# EAGLE library part LTC1966-RMS-DC-CONV (library tinyPFC)
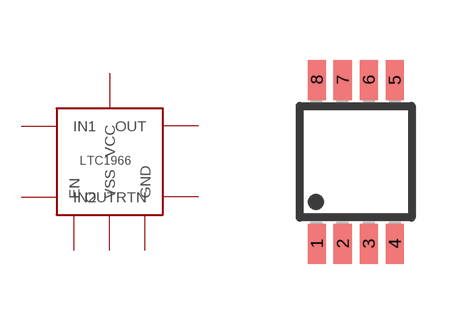
[diagram p1: symbol with the pads of MSOP8; footprint MSOP8]

Designator prefix -

## LTC1966-RMS-DC-CONV  [MSOP8]
1  GND  pwr
2  IN1  in
3  IN2  in
4  VSS  pwr
5  OUT  in
6  OUTRTN  in
7  VCC  pwr
8  EN  in

## Footprint MSOP8 (pad centres in mm)
Micro Small Outline Package Grid .65mm
smd 0.45 x 1: 1 -0.975,-2.05; 2 -0.325,-2.05; 3 0.325,-2.05; 4 0.975,-2.05; 5 0.975,2.05; 6 0.325,2.05; 7 -0.325,2.05; 8 -0.975,2.05